# Altium integrated library uCurrentnf_Version1.IntLib: 15 symbols
Pins are listed as number, name and electrical type; pins without a type are passive.

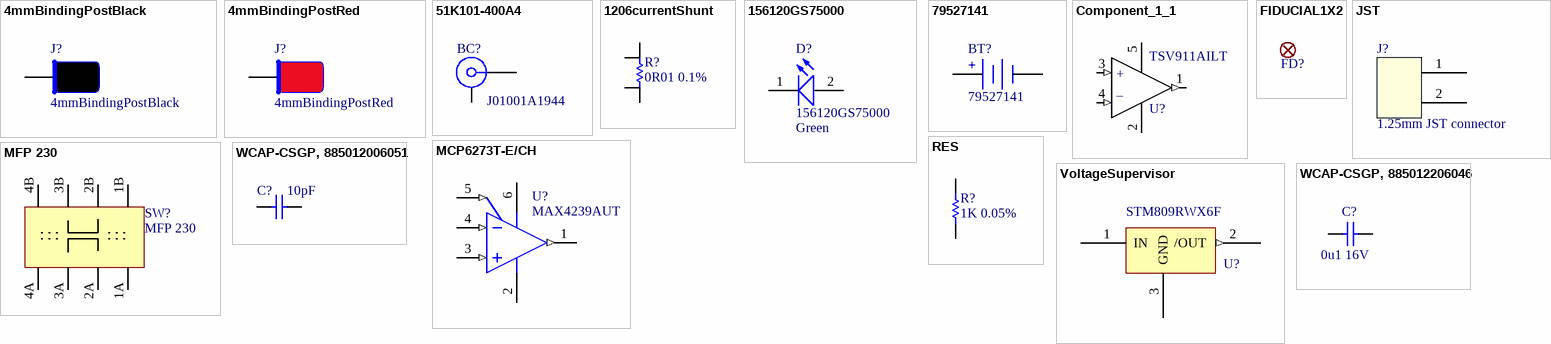
[diagram p0: symbols 4mmBindingPostBlack to WCAP-CSGP, 885012206046]

## 4mmBindingPostBlack
designator J?
footprint 4mmBindingPost (Gold Keyed 4mm Binding Post)
pins: 1 NOISE

## 4mmBindingPostRed
designator J?
footprint 4mmBindingPost (Gold Keyed 4mm Binding Post)
pins: 1 NOISE

## 51K101-400A4
designator BC?, comment J01001A1944
BNC 50R Straight Jack, Up to 10 GHz, -55 to 155 degC; PartNumber: 51K101-400A4; Design Note: Footprint in library is a generic example - only application specific footprint delivers High Performance; DatasheetVersion: c00; PackageVersion: c00; PackageReference: 51K101-400A4; PackageDescription: 50R BNC Straight Jack, 12 x 12 x 15 mm; Mounting Technology: Through Hole; ComponentLink1Description: Manufacturer URL; ComponentLink1URL: http://www.rosenberger.de; ComponentLink2Description: Datasheet; ComponentLink2URL: http://rosenberger.de/ok/images/documents/db/51K101-400A4.pdf; ComponentLink3Description: Package Specification; ComponentLink3URL: http://rosenberger.de/ok/images/documents/db/51K101-400A4.pdf; ComponentLink4Description: URL Link1; ComponentLink4URL: Series Overview / Design Note:http://rosenberger.de/ok/images/documents/spez/51.pdf; ComponentLink5Description: Webshop / RFQ; ComponentLink5URL: http://www.rosenberger.com/en/contact/sales/
footprint ROS-51K101-400A4_V (BNC 50R Straight Jack, 12x12x15mm, Rosenberger Recommended)
pins: 1, MH

## 1206currentShunt
designator R?, comment 0R01 0.1%
1206 current shunt
footprint 1206CS (1206 Current Sense)
footprint 2512shuntresistor
pins: 1, 2, 3, 4

## 156120GS75000
designator D?  EmittingColor: Green
WL-SMRW SMD Mono-color Reverse mount Waterclear, size 1206 rectangular, Green; ForwardVoltage: 3.3 V; ViewingAngle: 140°; PeakWavelength: 520 nm; PublishedDate: Jan. 2017; Publisher: Wurth Elektronik; ComponentLink1Description: Manufacturer; ComponentLink1URL: http://www.we-online.de; ComponentLink2Description: Datasheet; ComponentLink2URL: http://katalog.we-online.de/led/datasheet/156120GS75000.pdf; PartNumber: 156120GS75000; Size: 1206 rectangular
footprint WL-SMRW_1206 rectangular_Normal use (SMD Mono-color Reverse mount LED, body 3.2x1.2mm)
footprint WL-SMRW_1206 rectangular_Reverse use (SMD Mono-color Reverse mount LED, body 3.2x1.2mm)
pins: 1 K, 2 A

## 79527141
designator BT?
Battery Holder WA-BCPH, Battery Type: 2032p; BatteryType: 2032; PublishedDate: Nov. 2016; Publisher: Wurth Elektronik; ComponentLink1Description: Manufacturer; ComponentLink1URL: http://www.we-online.de; ComponentLink2Description: Datasheet; ComponentLink2URL: http://katalog.we-online.de/em/datasheet/79527141.pdf; PartNumber: 79527141
footprint 79527141 (Battery Holder)
pins: 1 Pos, 2 Neg
text: +

## Component_1_1
designator U?, comment TSV911AILT
footprint SOT95P280X130-5N
pins: 1 (out), 2 (power), 3 (in), 4 (in), 5 (power)
text: +; _

## FIDUCIAL1X2
designator FD?  (value not drawn)
Fiducial Alignment Points    Point-of-reference for pick-and-place machines and other optical instruments.
footprint FIDUCIAL-1X2

## JST
designator J?, comment 1.25mm JST connector
footprint PCBComponent_1
pins: 1, 2

## MCP6273T-E/CH
designator U?, comment MAX4239AUT
170 uA, 2 MHz Rail-to-Rail Operational Amplifier, 6-Pin SOT-23, Extended Temperature, Tape and Reel; Published: 29-Jan-2009; DatasheetVersion: revF, Mar-2008; PackageVersion: revBB, Aug-2009; PackageReference: SOT-23-CH6; Publisher: Altium Limited; PackageDescription: 6-Lead Plastic Small Outline Transistor (CH) [SOT-23]; Supplier 1: Digi-Key; Supplier Part Number 1: MCP6273T-E/CHTR-ND; Supplier 2: Digi-Key; Supplier Part Number 2: MCP6273T-E/CHCT-ND; Supplier 3: Digi-Key; Supplier Part Number 3: MCP6273T-E/CHDKR-ND; Code_IPC: SOT26A-6; ComponentLink1Description: Datasheet; ComponentLink1URL: http://ww1.microchip.com/downloads/en/DeviceDoc/21810f.pdf; ComponentLink2Description: Packaging Specification; ComponentLink2URL: http://www.microchip.com/stellent/groups/techpub_sg/documents/packagingspec/en012702.pdf; ComponentLink3Description: Microchip.com Home; ComponentLink3URL: http://www.microchip.com/
footprint SOT-23-CH6_N (SOT23, 6-Leads, Body 2.9x1.6mm, Pitch 0.95mm, Lead Span 2.7mm, IPC Medium Density)
footprint SOT-23-CH6_L (SOT23, 6-Leads, Body 2.9x1.6mm, Pitch 0.95mm, Lead Span 2.7mm, IPC High Density)
footprint SOT-23-CH6_M (SOT23, 6-Leads, Body 2.9x1.6mm, Pitch 0.95mm, Lead Span 2.7mm, IPC Low Density)
simulation model MCP6271 (SUBCKT)
pins: 1 VOUT (out), 2 VSS (power), 3 VIN+ (in), 4 VIN- (in), 5 ~{CS} (in), 6 VDD (power)

## MFP 230
designator SW?
Slide Switch
footprint MFP 230 (MFP 230 Slide Switch)
pins: 1A, 1B, 2A, 2B, 3A, 3B, 4A, 4B

## RES
designator R?, comment 1K 0.05%
Resistor, 75R 1% 0805 (2012); Power Rating: 125 mW; Mounting Technology: Surface Mount; Resistance: 75 R; Status: Production; Tolerance: 1 %; Category: Resistor
footprint RESC2012-STAR
footprint RESC2012N
footprint RESC1608N
pins: 1, 2

## VoltageSupervisor
designator U?, comment STM809RWX6F
footprint SOT23 (SOT-23; 3 Leads; Body 3.1 x 2.5 mm, inc. leads (LxW max), Alternate Lead Configuration)
pins: 1 IN (power), 2 /OUT (out), 3 GND (power)

## WCAP-CSGP, 885012006051
designator C?, comment 10pF
WCAP-CSGP Ceramic Capacitors, 0603, 10pF; PartNumber: 885012006051; RatedVoltage: 50V DC; CeramicType: NP0; PublishedDate: Aug 2016; Publisher: Wurth Elektronik; ComponentLink1Description: Manufacturer; ComponentLink1URL: http://www.we-online.de; ComponentLink2Description: Datasheet; ComponentLink2URL: http://katalog.we-online.com/pbs/datasheet/885012006051.pdf; Value: 10pF; Size: 0603
footprint WCAP-CSGP_0603, 1.6x0.8x0.8
pins: 1, 2

## WCAP-CSGP, 885012206046
designator C?, comment 0u1 16V
WCAP-CSGP Ceramic Capacitors, 0603, 100000pF; PartNumber: 885012206046; RatedVoltage: 16V DC; CeramicType: X7R; PublishedDate: Aug 2016; Publisher: Wurth Elektronik; ComponentLink1Description: Manufacturer; ComponentLink1URL: http://www.we-online.de; ComponentLink2Description: Datasheet; ComponentLink2URL: http://katalog.we-online.com/pbs/datasheet/885012206046.pdf; Value: 100000pF; Size: 0603
footprint WCAP-CSGP_0603, 1.6x0.8x0.8
pins: 1, 2